# Altium footprint library WR-MPC5.PcbLib: 52 footprints (part 1 of 4)
Each footprint in its own frame and in the unit in brackets; x right, y up, seen from the top. Pads: shape width x height; smd on the part's side, far side on the other; paste and mask are expansions set on the pad; w line width, h text height; cw(c..) or ccw(c..) is an arc to the next point about the centre after c.
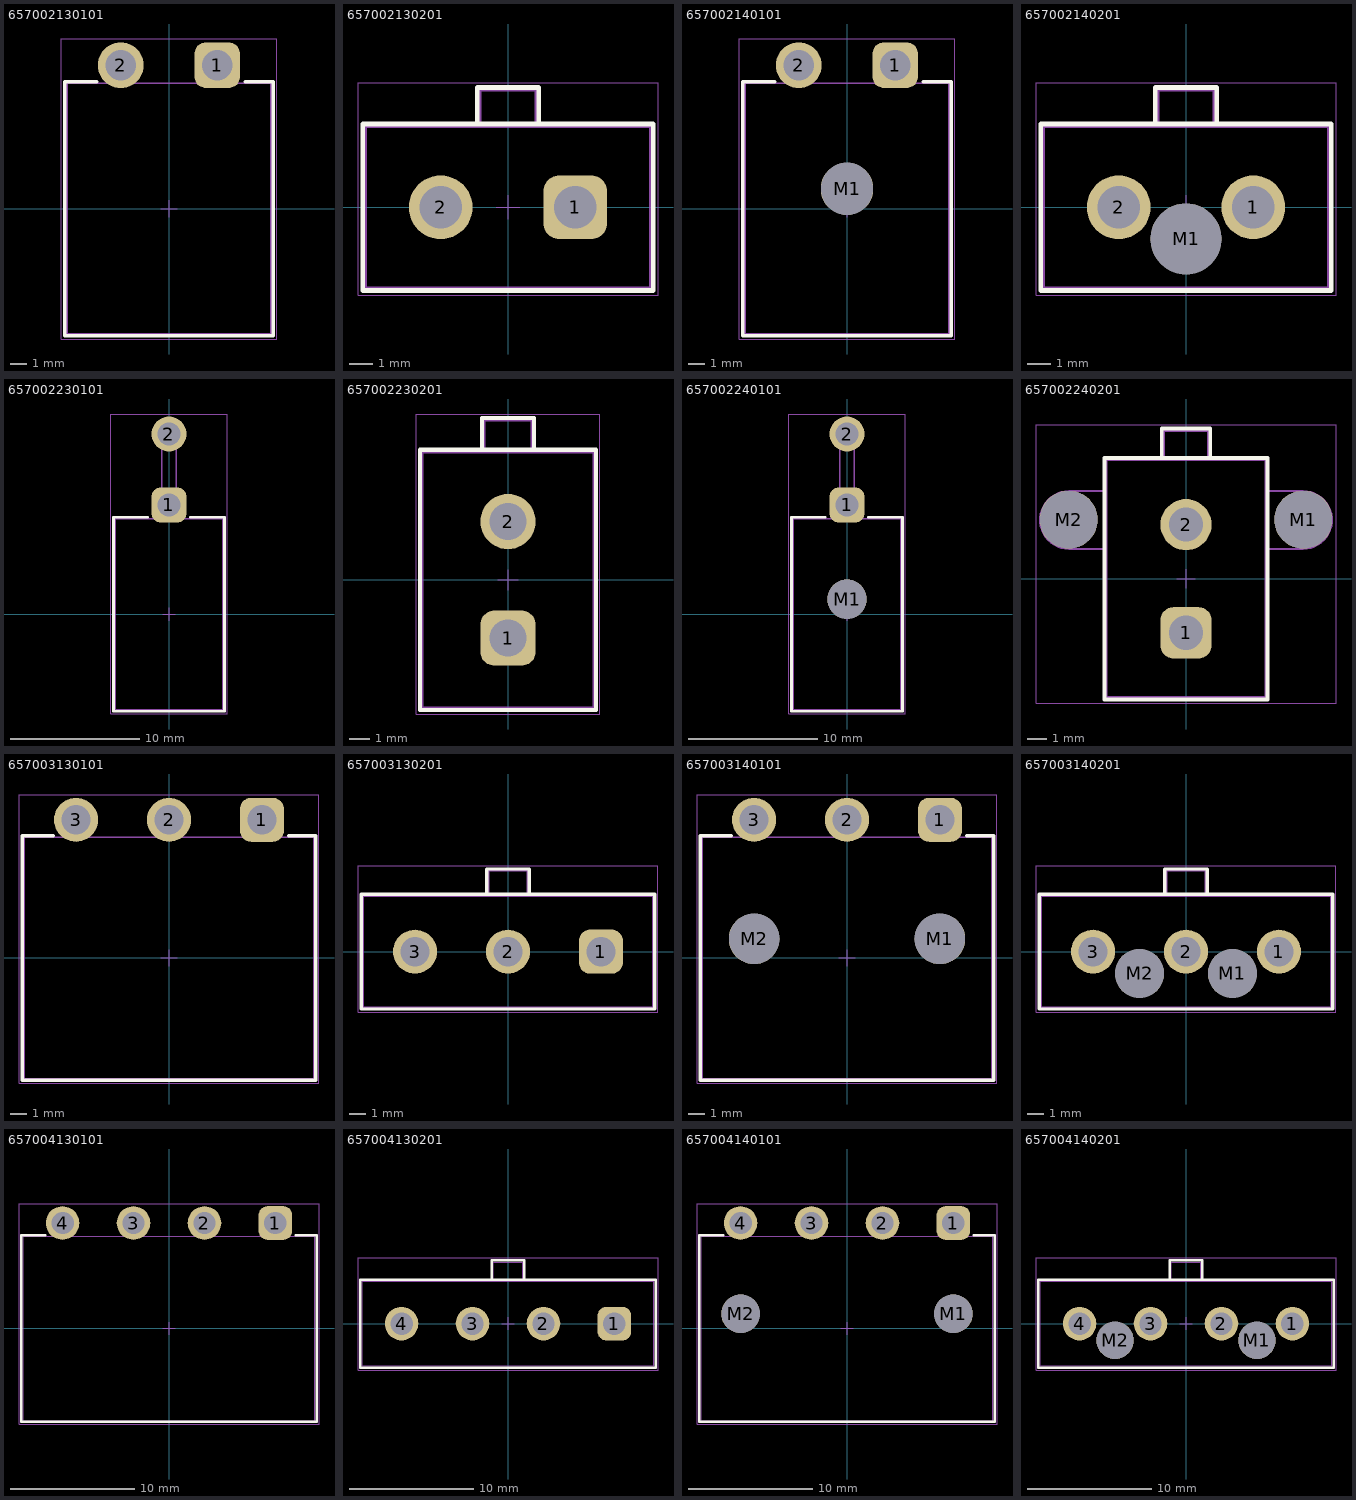
[diagram p0: the footprints below, top view; thin cyan lines are the x and y axes]

## 657002130101 [mm] "THT Single Row Male Header Right Angled, 02p"
height 7.25
pads (2):
  rrect50% 2.7x2.7 hole 1.8: 1(2.85,8.47)
  round 2.7 hole 1.8: 2(-2.85,8.47)
Top Overlay:
  lines w0.2: -4.25,7.5 -6.15,7.5 -6.15,-7.5 6.15,-7.5 6.15,7.5 4.5,7.5
Top Designator:
  text ".Designator" at -7.498,-0.5 h1.5
Top Component Outline:
  lines w0.1: -3.42,7.4 -3.42,9.04 -2.28,9.04 -2.28,7.4 ; 2.28,7.4 2.28,9.04 3.42,9.04 3.42,7.4 ; -6.025,-7.4 -6.025,7.4 6.025,7.4 6.025,-7.4 -6.025,-7.4
Top Courtyard:
  lines w0.05: -6.35,-7.7 6.35,-7.7 6.35,10.02 -6.35,10.02 -6.35,-7.7
Top Component Center:
  lines w0.05: -0.5,0 0.5,0 ; 0,-0.5 0,0.5
3D body "657002130101.stp": height 8.85, standoff -3.43, extent -6.025,-7.4 6.025,9.04

## 657002130201 [mm] "Single Row Male Header Vertical, 02p"
height 15.3
pads (2):
  rrect50% 2.7x2.7 hole 1.8: 1(2.85,0)
  round 2.7 hole 1.8: 2(-2.85,0)
Top Overlay:
  lines w0.2: -1.3,3.525 -1.3,5.075 1.3,5.075 1.3,3.525 ; -6.15,-3.525 6.15,-3.525 6.15,3.525 -6.15,3.525 -6.15,-3.525
Top Designator:
  text ".Designator" at -7.498,-0.5 h1.5
Top Component Outline:
  lines w0.1: -1.175,3.4 -1.175,4.95 1.175,4.95 1.175,3.4 ; -6.025,-3.4 6.025,-3.4 6.025,3.4 -6.025,3.4 -6.025,-3.4
Top Courtyard:
  lines w0.05: -6.35,-3.725 -6.35,5.275 6.35,5.275 6.35,-3.725 -6.35,-3.725
Top Component Center:
  lines w0.05: -0.5,0 0.5,0 ; 0,-0.5 0,0.5
3D body "657002130201.stp": height 15.35, standoff -3.15, extent -6.025,-3.4 6.025,4.95

## 657002140101 [mm] "THT Single Row Male Header Right Angled, 02p"
height 7.25
pads (3):
  rrect50% 2.7x2.7 hole 1.8: 1(2.85,8.47)
  round 2.7 hole 1.8: 2(-2.85,8.47)
  round 3.1 hole 3.1 unplated: M1(0,1.17)
Top Overlay:
  lines w0.2: -4.25,7.5 -6.15,7.5 -6.15,-7.5 6.15,-7.5 6.15,7.5 4.5,7.5
Top Designator:
  text ".Designator" at -7.498,-0.5 h1.5
Top Component Outline:
  lines w0.1: -3.42,7.4 -3.42,9.04 -2.28,9.04 -2.28,7.4 ; 2.28,7.4 2.28,9.04 3.42,9.04 3.42,7.4 ; -6.025,-7.4 -6.025,7.4 6.025,7.4 6.025,-7.4 -6.025,-7.4
Top Courtyard:
  lines w0.05: -6.35,-7.7 6.35,-7.7 6.35,10.02 -6.35,10.02 -6.35,-7.7
Top Component Center:
  lines w0.05: -0.5,0 0.5,0 ; 0,-0.5 0,0.5
3D body "657002140101.stp": height 8.85, standoff -3.43, extent -6.025,-7.4 6.025,9.04

## 657002140201 [mm] "Single Row Male Header Vertical, 02p"
height 15.3
pads (3):
  round 2.7 hole 1.8: 1(2.85,0) 2(-2.85,0)
  round 3 hole 3 unplated: M1(0,-1.34)
Top Overlay:
  lines w0.2: -1.3,3.525 -1.3,5.075 1.3,5.075 1.3,3.525 ; -6.15,-3.525 -6.15,3.525 6.15,3.525 6.15,-3.525 -6.15,-3.525
Top Designator:
  text ".Designator" at -7.498,-0.5 h1.5
Top Component Outline:
  lines w0.1: -1.175,3.4 -1.175,4.95 1.175,4.95 1.175,3.4 ; -6.025,-3.4 -6.025,3.4 6.025,3.4 6.025,-3.4 -6.025,-3.4
Top Courtyard:
  lines w0.05: -6.35,-3.725 6.35,-3.725 6.35,5.275 -6.35,5.275 -6.35,-3.725
Top Component Center:
  lines w0.05: -0.5,0 0.5,0 ; 0,-0.5 0,0.5
3D body "657002140201.stp": height 15.35, standoff -3.15, extent -6.025,-3.4 6.025,4.95

## 657002230101 [mm] "Dual Row Male Header Right Angled, GW, THT, 02p"
height 14.53
pads (2):
  rrect50% 2.7x2.7 hole 1.8: 1(0,8.47)
  round 2.7 hole 1.8: 2(0,13.97)
Top Overlay:
  lines w0.2: -1.65,7.525 -4.3,7.525 -4.3,-7.525 4.3,-7.525 4.3,7.525 1.65,7.525
Top Designator:
  text ".Designator" at -7.498,-0.5 h1.5
Top Component Outline:
  lines w0.1: -0.57,7.4 -0.57,14.54 0.57,14.54 0.57,7.4 ; -0.57,9.04 0.57,9.04 ; -4.175,-7.4 4.175,-7.4 4.175,7.4 -4.175,7.4 -4.175,-7.4
Top Courtyard:
  lines w0.05: -4.5,-7.725 -4.5,15.52 4.5,15.52 4.5,-7.725 -4.5,-7.725
Top Component Center:
  lines w0.05: -0.5,0 0.5,0 ; 0,-0.5 0,0.5
3D body "657002230101.stp": height 14.69, standoff -3.44, extent -4.175,-7.4 4.175,14.54

## 657002230201 [mm] "THT Dual Row Male Header Vertical, 02p"
height 14.8
pads (2):
  rrect50% 2.7x2.7 hole 1.8: 1(0,-2.85)
  round 2.7 hole 1.8: 2(0,2.85)
Top Overlay:
  lines w0.2: -1.275,6.365 -1.275,7.915 1.275,7.915 1.275,6.365 ; -4.3,-6.365 4.3,-6.365 4.3,6.365 -4.3,6.365 -4.3,-6.365
Top Designator:
  text ".Designator" at -7.498,-0.5 h1.5
Top Component Outline:
  lines w0.1: -1.15,6.24 -1.15,7.79 1.15,7.79 1.15,6.24 ; -4.175,-6.24 4.175,-6.24 4.175,6.24 -4.175,6.24 -4.175,-6.24
Top Courtyard:
  lines w0.05: -4.5,-6.565 -4.5,8.115 4.5,8.115 4.5,-6.565 -4.5,-6.565
Top Component Center:
  lines w0.05: -0.5,0 0.5,0 ; 0,-0.5 0,0.5
3D body "657002230201.stp": height 14.85, standoff -3.65, extent -4.175,-6.24 4.175,7.79

## 657002240101 [mm] "Dual Row Male Header Right Angled, GW, THT, 02p"
height 14.53
pads (3):
  rrect50% 2.7x2.7 hole 1.8: 1(0,8.47)
  round 2.7 hole 1.8: 2(0,13.97)
  round 3.05 hole 3.05 unplated: M1(0,1.17)
Top Overlay:
  lines w0.2: -1.675,7.525 -4.3,7.525 -4.3,-7.525 4.3,-7.525 4.3,7.525 1.65,7.525
Top Designator:
  text ".Designator" at -7.498,-0.5 h1.5
Top Component Outline:
  lines w0.1: -0.57,7.4 -0.57,14.54 0.57,14.54 0.57,7.4 ; -0.57,9.04 0.57,9.04 ; -4.175,-7.4 -4.175,7.4 4.175,7.4 4.175,-7.4 -4.175,-7.4
Top Courtyard:
  lines w0.05: -4.5,-7.725 4.5,-7.725 4.5,15.52 -4.5,15.52 -4.5,-7.725
Top Component Center:
  lines w0.05: -0.5,0 0.5,0 ; 0,-0.5 0,0.5
3D body "657002240101.stp": height 14.69, standoff -3.44, extent -4.175,-7.38 4.175,14.56

## 657002240201 [mm] "THT Dual Row Male Header Vertical with Pegs, 02p"
height 14.8
pads (4):
  rrect50% 2.7x2.7 hole 1.8: 1(0,-2.85)
  round 2.7 hole 1.8: 2(0,2.85)
  round 3.05 hole 3.05 unplated: M1(6.18,3.11) M2(-6.18,3.11)
Top Overlay:
  lines w0.2: -1.275,6.365 -1.275,7.915 1.275,7.915 1.275,6.365 ; -4.3,-6.365 -4.3,6.365 4.3,6.365 4.3,-6.365 -4.3,-6.365
Top Designator:
  text ".Designator" at -7.498,-0.5 h1.5
Top Component Outline:
  lines w0.1: -7.692,3 cw(c-6.165,3.09) -6.165,4.62 -4.175,4.62 ; -7.692,3.19 ccw(c-6.165,3.1) -6.165,1.57 -4.175,1.57 ; -1.15,6.24 -1.15,7.79 1.15,7.79 1.15,6.24 ; 4.175,1.57 6.165,1.57 ccw(c6.165,3.1) 7.692,3.19 ; 4.175,4.62 6.165,4.62 cw(c6.165,3.09) 7.692,3 ; -4.175,-6.24 -4.175,6.24 4.175,6.24 4.175,-6.24 -4.175,-6.24
Top Courtyard:
  lines w0.05: -7.905,-6.565 7.905,-6.565 7.905,8.115 -7.905,8.115 -7.905,-6.565
Top Component Center:
  lines w0.05: -0.5,0 0.5,0 ; 0,-0.5 0,0.5
3D body "657002240201.stp": height 14.85, standoff -3.65, extent -7.695,-6.24 7.695,7.79

## 657003130101 [mm] "THT Single Row Male Header Right Angled, 03p"
height 7.25
pads (3):
  rrect50% 2.7x2.7 hole 1.8: 1(5.7,8.47)
  round 2.7 hole 1.8: 2(0,8.47) 3(-5.7,8.47)
Top Overlay:
  lines w0.2: -7.1,7.5 -9,7.5 -9,-7.5 9,-7.5 9,7.5 7.35,7.5
Top Designator:
  text ".Designator" at -7.498,-0.5 h1.5
Top Component Outline:
  lines w0.1: -6.27,7.4 -6.27,9.04 -5.13,9.04 -5.13,7.4 ; -0.57,7.4 -0.57,9.04 0.57,9.04 0.57,7.4 ; 5.13,7.4 5.13,9.04 6.27,9.04 6.27,7.4 ; -8.875,-7.4 8.875,-7.4 8.875,7.4 -8.875,7.4 -8.875,-7.4
Top Courtyard:
  lines w0.05: -9.2,-7.7 -9.2,10.02 9.2,10.02 9.2,-7.7 -9.2,-7.7
Top Component Center:
  lines w0.05: -0.5,0 0.5,0 ; 0,-0.5 0,0.5
3D body "657003130101.stp": height 8.85, standoff -3.43, extent -8.875,-7.4 8.875,9.04

## 657003130201 [mm] "Single Row Male Header Vertical, 03p"
height 15.3
pads (3):
  rrect50% 2.7x2.7 hole 1.8: 1(5.7,0)
  round 2.7 hole 1.8: 2(0,0) 3(-5.7,0)
Top Overlay:
  lines w0.2: -1.3,3.525 -1.3,5.075 1.3,5.075 1.3,3.525 ; -9,-3.525 9,-3.525 9,3.525 -9,3.525 -9,-3.525
Top Designator:
  text ".Designator" at -7.498,-0.5 h1.5
Top Component Outline:
  lines w0.1: -1.175,3.4 -1.175,4.95 1.175,4.95 1.175,3.4 ; -8.875,-3.4 8.875,-3.4 8.875,3.4 -8.875,3.4 -8.875,-3.4
Top Courtyard:
  lines w0.05: -9.2,-3.725 -9.2,5.275 9.2,5.275 9.2,-3.725 -9.2,-3.725
Top Component Center:
  lines w0.05: -0.5,0 0.5,0 ; 0,-0.5 0,0.5
3D body "657003130201.stp": height 15.35, standoff -3.15, extent -8.875,-3.4 8.875,4.95

## 657003140101 [mm] "THT Single Row Male Header Right Angled, 03p"
height 7.25
pads (5):
  rrect50% 2.7x2.7 hole 1.8: 1(5.7,8.47)
  round 2.7 hole 1.8: 2(0,8.47) 3(-5.7,8.47)
  round 3.1 hole 3.1 unplated: M1(5.7,1.17) M2(-5.7,1.17)
Top Overlay:
  lines w0.2: -7.1,7.5 -9,7.5 -9,-7.5 9,-7.5 9,7.5 7.35,7.5
Top Designator:
  text ".Designator" at -7.498,-0.5 h1.5
Top Component Outline:
  lines w0.1: -6.27,7.4 -6.27,9.04 -5.13,9.04 -5.13,7.4 ; -0.57,7.4 -0.57,9.04 0.57,9.04 0.57,7.4 ; 5.13,7.4 5.13,9.04 6.27,9.04 6.27,7.4 ; -8.875,-7.4 8.875,-7.4 8.875,7.4 -8.875,7.4 -8.875,-7.4
Top Courtyard:
  lines w0.05: -9.2,-7.7 -9.2,10.02 9.2,10.02 9.2,-7.7 -9.2,-7.7
Top Component Center:
  lines w0.05: -0.5,0 0.5,0 ; 0,-0.5 0,0.5
3D body "657003140101.stp": height 8.85, standoff -3.43, extent -8.875,-7.4 8.875,9.04

## 657003140201 [mm] "Single Row Male Header Vertical, 03p"
height 15.3
pads (5):
  round 2.7 hole 1.8: 1(5.7,0) 2(0,0) 3(-5.7,0)
  round 3 hole 3 unplated: M1(2.85,-1.34) M2(-2.85,-1.34)
Top Overlay:
  lines w0.2: -1.3,3.525 -1.3,5.075 1.3,5.075 1.3,3.525 ; -9,-3.525 9,-3.525 9,3.525 -9,3.525 -9,-3.525
Top Designator:
  text ".Designator" at -7.498,-0.5 h1.5
Top Component Outline:
  lines w0.1: -1.175,3.4 -1.175,4.95 1.175,4.95 1.175,3.4 ; -8.875,-3.4 8.875,-3.4 8.875,3.4 -8.875,3.4 -8.875,-3.4
Top Courtyard:
  lines w0.05: -9.2,-3.725 -9.2,5.275 9.2,5.275 9.2,-3.725 -9.2,-3.725
Top Component Center:
  lines w0.05: -0.5,0 0.5,0 ; 0,-0.5 0,0.5
3D body "657003140201.stp": height 15.35, standoff -3.15, extent -8.875,-3.4 8.875,4.95

## 657004130101 [mm] "THT Single Row Male Header Right Angled, 04p"
height 7.25
pads (4):
  rrect50% 2.7x2.7 hole 1.8: 1(8.55,8.47)
  round 2.7 hole 1.8: 2(2.85,8.47) 3(-2.85,8.47) 4(-8.55,8.47)
Top Overlay:
  lines w0.2: -9.95,7.5 -11.85,7.5 -11.85,-7.5 11.85,-7.5 11.85,7.5 10.2,7.5
Top Designator:
  text ".Designator" at -7.498,-0.5 h1.5
Top Component Outline:
  lines w0.1: -9.12,7.4 -9.12,9.04 -7.98,9.04 -7.98,7.4 ; -3.42,7.4 -3.42,9.04 -2.28,9.04 -2.28,7.4 ; 2.28,7.4 2.28,9.04 3.42,9.04 3.42,7.4 ; 7.98,7.4 7.98,9.04 9.12,9.04 9.12,7.4 ; -11.725,-7.4 -11.725,7.4 11.725,7.4 11.725,-7.4 -11.725,-7.4
Top Courtyard:
  lines w0.05: -12.05,-7.7 12.05,-7.7 12.05,10.02 -12.05,10.02 -12.05,-7.7
Top Component Center:
  lines w0.05: -0.5,0 0.5,0 ; 0,-0.5 0,0.5
3D body "657004130101.stp": height 8.85, standoff -3.43, extent -11.725,-7.4 11.725,9.04

## 657004130201 [mm] "Single Row Male Header Vertical, 04p"
height 15.3
pads (4):
  rrect50% 2.7x2.7 hole 1.8: 1(8.55,0)
  round 2.7 hole 1.8: 2(2.85,0) 3(-2.85,0) 4(-8.55,0)
Top Overlay:
  lines w0.2: -1.3,3.525 -1.3,5.075 1.3,5.075 1.3,3.525 ; -11.85,-3.525 -11.85,3.525 11.85,3.525 11.85,-3.525 -11.85,-3.525
Top Designator:
  text ".Designator" at -7.498,-0.5 h1.5
Top Component Outline:
  lines w0.1: -1.175,3.4 -1.175,4.95 1.175,4.95 1.175,3.4 ; -11.725,-3.4 -11.725,3.4 11.725,3.4 11.725,-3.4 -11.725,-3.4
Top Courtyard:
  lines w0.05: -12.05,-3.725 12.05,-3.725 12.05,5.275 -12.05,5.275 -12.05,-3.725
Top Component Center:
  lines w0.05: -0.5,0 0.5,0 ; 0,-0.5 0,0.5
3D body "657004130201.stp": height 15.35, standoff -3.15, extent -11.725,-3.4 11.725,4.95

## 657004140101 [mm] "THT Single Row Male Header Right Angled, 04p"
height 7.25
pads (6):
  rrect50% 2.7x2.7 hole 1.8: 1(8.55,8.47)
  round 2.7 hole 1.8: 2(2.85,8.47) 3(-2.85,8.47) 4(-8.55,8.47)
  round 3.1 hole 3.1 unplated: M1(8.55,1.17) M2(-8.55,1.17)
Top Overlay:
  lines w0.2: -9.95,7.5 -11.85,7.5 -11.85,-7.5 11.85,-7.5 11.85,7.5 10.2,7.5
Top Designator:
  text ".Designator" at -7.498,-0.5 h1.5
Top Component Outline:
  lines w0.1: -9.12,7.4 -9.12,9.04 -7.98,9.04 -7.98,7.4 ; -3.42,7.4 -3.42,9.04 -2.28,9.04 -2.28,7.4 ; 2.28,7.4 2.28,9.04 3.42,9.04 3.42,7.4 ; 7.98,7.4 7.98,9.04 9.12,9.04 9.12,7.4 ; -11.725,-7.4 11.725,-7.4 11.725,7.4 -11.725,7.4 -11.725,-7.4
Top Courtyard:
  lines w0.05: -12.05,-7.7 -12.05,10.02 12.05,10.02 12.05,-7.7 -12.05,-7.7
Top Component Center:
  lines w0.05: -0.5,0 0.5,0 ; 0,-0.5 0,0.5
3D body "657004140101.stp": height 8.85, standoff -3.43, extent -11.725,-7.4 11.725,9.04

## 657004140201 [mm] "Single Row Male Header Vertical, 04p"
height 15.3
pads (6):
  round 2.7 hole 1.8: 1(8.55,0) 2(2.85,0) 3(-2.85,0) 4(-8.55,0)
  round 3 hole 3 unplated: M1(5.7,-1.34) M2(-5.7,-1.34)
Top Overlay:
  lines w0.2: -1.3,3.525 -1.3,5.075 1.3,5.075 1.3,3.525 ; -11.85,-3.525 11.85,-3.525 11.85,3.525 -11.85,3.525 -11.85,-3.525
Top Designator:
  text ".Designator" at -7.498,-0.5 h1.5
Top Component Outline:
  lines w0.1: -1.175,3.4 -1.175,4.95 1.175,4.95 1.175,3.4 ; -11.725,-3.4 11.725,-3.4 11.725,3.4 -11.725,3.4 -11.725,-3.4
Top Courtyard:
  lines w0.05: -12.05,-3.725 -12.05,5.275 12.05,5.275 12.05,-3.725 -12.05,-3.725
Top Component Center:
  lines w0.05: -0.5,0 0.5,0 ; 0,-0.5 0,0.5
3D body "657004140201.stp": height 15.35, standoff -3.15, extent -11.725,-3.4 11.725,4.95